# Altium schematic symbol library temporary.SchLib: 42 symbols
Pins are listed as number, name and electrical type; pins without a type are passive.

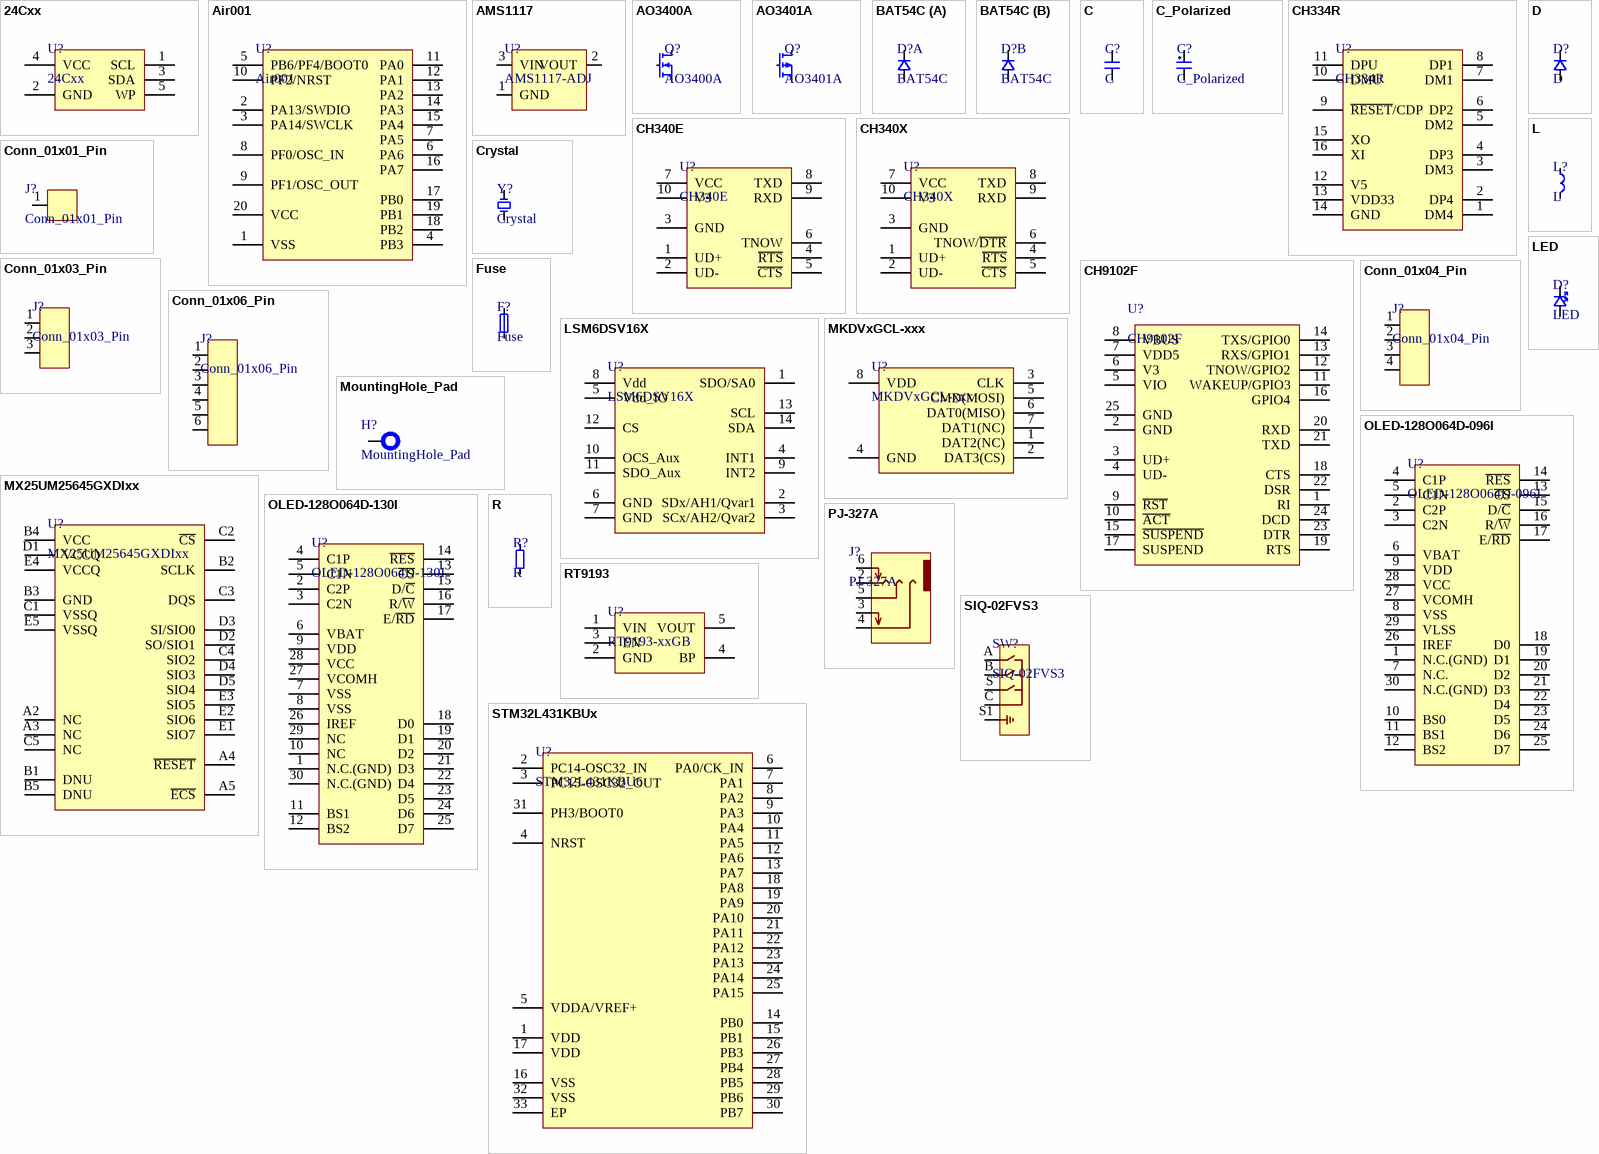
[diagram p0: symbols 24Cxx to STM32L431KBUx]

## 24Cxx
designator U?
I2C Serial EEPROM
footprint SOT-23-5
pins: 1 SCL, 2 GND, 3 SDA, 4 VCC, 5 WP

## Air001
designator U?
AirM2M Arm Cortex-M0+ MCU, 32KB Flash, 4KB RAM, 48 MHz, 1.7-5.5V, 18 GPIO, TSSOP20
footprint TSSOP-20_4.4x6.5mm_P0.65mm
pins: 1 VSS, 2 PA13/SWDIO, 3 PA14/SWCLK, 4 PB3, 5 PB6/PF4/BOOT0, 6 PA6, 7 PA5, 8 PF0/OSC_IN, 9 PF1/OSC_OUT, 10 PF2/NRST, 11 PA0, 12 PA1, 13 PA2, 14 PA3, 15 PA4, 16 PA7, 17 PB0, 18 PB2, 19 PB1, 20 VCC

## AMS1117
designator U?, comment AMS1117-ADJ
Low Dropout regulator
footprint SOT-223-3_TabPin2
pins: 1 GND, 2 VOUT, 3 VIN

## AO3400A
designator Q?
30V Vds, 5.7A Id, N-Channel MOSFET, SOT-23
footprint SOT-23-3
pins: 1 G, 2 S, 3 D

## AO3401A
designator Q?
Package_TO_SOT_SMD:SOT-23
footprint SOT-23-3
pins: 1 G, 2 S, 3 D

## BAT54C
designator D?
dual schottky barrier diode, common cathode
footprint SOT-23-3
part A pins: 1, 3
part B pins: 2

## C
designator C?
Capacitor
footprint C_0402_1005Metric
footprint C_0603_1608Metric
footprint C_0805_2012Metric
footprint C_1206_3216Metric
pins: 1, 2

## C_Polarized
designator C?
Polarized capacitor
footprint CP_EIA-3216-18_Kemet-A
pins: 1, 2

## CH334R
designator U?
USB HUB controller
footprint QSOP-16_3.9x4.9mm_P0.635mm
pins: 1 DM4, 2 DP4, 3 DM3, 4 DP3, 5 DM2, 6 DP2, 7 DM1, 8 DP1, 9 ~{RESET}/CDP, 10 DMU, 11 DPU, 12 V5, 13 VDD33, 14 GND, 15 XO, 16 XI

## CH340E
designator U?
USB serial converter, UART, MSOP-10
footprint MSOP-10_3x3mm_P0.5mm
pins: 1 UD+, 2 UD-, 3 GND, 4 ~{RTS}, 5 ~{CTS}, 6 TNOW, 7 VCC, 8 TXD, 9 RXD, 10 V3

## CH340X
designator U?
USB serial converter, 5V-tolerant IO, UART, MSOP-10
footprint MSOP-10_3x3mm_P0.5mm
pins: 1 UD+, 2 UD-, 3 GND, 4 ~{RTS}, 5 ~{CTS}, 6 TNOW/~{DTR}, 7 VCC, 8 TXD, 9 RXD, 10 V3

## CH9102F
designator U?
WCH-IC, Single-Chip USB-to-UART Bridge, USB 2.0 Full-Speed, 4Mbps UART, QFN-24
footprint QFN-24-1EP_4x4mm_P0.5mm_EP2.7x2.7mm
pins: 1 RI, 2 GND, 3 UD+, 4 UD-, 5 VIO, 6 V3, 7 VDD5, 8 VBUS, 9 ~{RST}, 10 ~{ACT}, 11 WAKEUP/GPIO3, 12 TNOW/GPIO2, 13 RXS/GPIO1, 14 TXS/GPIO0, 15 ~{SUSPEND}, 16 GPIO4, 17 SUSPEND, 18 CTS, 19 RTS, 20 RXD, 21 TXD, 22 DSR, 23 DTR, 24 DCD, 25 GND

## Conn_01x01_Pin
designator J?
Generic connector, single row, 01x01
footprint TestPoint_Plated_Hole_D2.0mm
footprint TestPoint_Plated_Hole_D3.0mm
footprint TestPoint_Plated_Hole_D4.0mm
footprint TestPoint_Plated_Hole_D5.0mm
footprint PinHeader_1x01_P2.54mm_Horizontal
footprint PinHeader_1x01_P2.54mm_Vertical
footprint TestPoint_Plated_Hole_D1.0mm
pins: 1

## Conn_01x03_Pin
designator J?
Generic connector, single row, 01x03
footprint PinHeader_1x03_P2.54mm_Horizontal
footprint PinHeader_1x03_P2.54mm_Vertical
pins: 1, 2, 3

## Conn_01x04_Pin
designator J?
Generic connector, single row, 01x04
footprint PinHeader_1x04_P2.54mm_Horizontal
footprint PinHeader_1x04_P2.54mm_Vertical
pins: 1, 2, 3, 4

## Conn_01x06_Pin
designator J?
Generic connector, single row, 01x06
footprint PinHeader_1x06_P2.54mm_Horizontal
footprint PinHeader_1x06_P2.54mm_Vertical
pins: 1, 2, 3, 4, 5, 6

## Crystal
designator Y?
footprint Crystal_HC49-4H_Vertical
footprint Crystal_SMD_3225-4Pin_3.2x2.5mm; pin to pad 2>3
footprint Crystal_SMD_HC49-SD
footprint Crystal_SMD_3215-2Pin_3.2x1.5mm
pins: 1, 2

## D
designator D?
Diode
footprint D_SOD-323
pins: 1 K, 2 A

## Fuse
designator F?
footprint Fuse_0402_1005Metric
footprint Fuse_0805_2012Metric
footprint Fuse_1206_3216Metric
footprint Fuse_0603_1608Metric
pins: 1, 2

## L
designator L?
Inductor
footprint L_0402_1005Metric
footprint L_0603_1608Metric
footprint L_0805_2012Metric
footprint L_1206_3216Metric
pins: 1, 2

## LED
designator D?
Light emitting diode
footprint LED_0603_1608Metric
pins: 1 K, 2 A

## LSM6DSV16X
designator U?
I2C/SPI, iNEMO inertial module: always-on 3D accelerometer and 3D gyroscope, 1.71V to 3.6V VCC
footprint LGA-14_3x2.5mm_P0.5mm_LayoutBorder3x4y
pins: 1 SDO/SA0, 2 SDx/AH1/Qvar1, 3 SCx/AH2/Qvar2, 4 INT1, 5 Vdd_IO, 6 GND, 7 GND, 8 Vdd, 9 INT2, 10 OCS_Aux, 11 SDO_Aux, 12 CS, 13 SCL, 14 SDA

## MKDVxGCL-xxx
designator U?
SD NAND Flash
footprint LGA-8_8x6mm_P1.27mm
pins: 1 DAT2(NC), 2 DAT3(CS), 3 CLK, 4 GND, 5 CMD(MOSI), 6 DAT0(MISO), 7 DAT1(NC), 8 VDD

## MountingHole_Pad
designator H?
Mounting Hole with connection
footprint MountingHole_2.2mm_M2_Pad_Via
footprint MountingHole_2.7mm_M2.5_Pad_Via
footprint MountingHole_3.2mm_M3_Pad_Via
pins: 1

## MX25UM25645GXDIxx
designator U?
1.8V Serial NOR Flash
footprint BGA-24_6x8mm_P1.0mm
pins: A2 NC, A3 NC, A4 ~{RESET}, A5 ~{ECS}, B1 DNU, B2 SCLK, B3 GND, B4 VCC, B5 DNU, C1 VSSQ, C2 ~{CS}, C3 DQS, C4 SIO2, C5 NC, D1 VCCQ, D2 SO/SIO1, D3 SI/SIO0, D4 SIO3, D5 SIO4, E1 SIO7, E2 SIO6, E3 SIO5, E4 VCCQ, E5 VSSQ

## OLED-128O064D-096I
designator U?
0.96' OLED display 128x64
footprint OLED-128O064D
pins: 1 N.C.(GND), 2 C2P, 3 C2N, 4 C1P, 5 C1N, 6 VBAT, 7 N.C., 8 VSS, 9 VDD, 10 BS0, 11 BS1, 12 BS2, 13 ~{CS}, 14 ~{RES}, 15 D/~{C}, 16 R/~{W}, 17 E/~{RD}, 18 D0, 19 D1, 20 D2, 21 D3, 22 D4, 23 D5, 24 D6, 25 D7, 26 IREF, 27 VCOMH, 28 VCC, 29 VLSS, 30 N.C.(GND)

## OLED-128O064D-130I
designator U?
1.30' OLED display 128x64
footprint OLED-128O064D
pins: 1 N.C.(GND), 2 C2P, 3 C2N, 4 C1P, 5 C1N, 6 VBAT, 7 VSS, 8 VSS, 9 VDD, 10 NC, 11 BS1, 12 BS2, 13 ~{CS}, 14 ~{RES}, 15 D/~{C}, 16 R/~{W}, 17 E/~{RD}, 18 D0, 19 D1, 20 D2, 21 D3, 22 D4, 23 D5, 24 D6, 25 D7, 26 IREF, 27 VCOMH, 28 VCC, 29 NC, 30 N.C.(GND)

## PJ-327A
designator J?
footprint Jack_3.5mm_PJ327A_Horizontal
pins: 2, 3, 4, 5, 6

## R
designator R?
Resistor
footprint R_0402_1005Metric
footprint R_0603_1608Metric
footprint R_0805_2012Metric
footprint R_1206_3216Metric
pins: 1, 2

## RT9193
designator U?, comment RT9193-xxGB
Positive 300mA Low Dropout Regulator
footprint SOT-23-5
pins: 1 VIN, 2 GND, 3 EN, 4 BP, 5 VOUT

## SIQ-02FVS3
designator SW?
footprint SIQ-02FVS3
pins: A, B, C, S, S1 SHIELD

## STM32L431KBUx
designator U?, comment STM32L431KBU6
STMicroelectronics Arm Cortex-M4 MCU, 128KB Flash, 64KB RAM, 80 MHz, 1.71-3.6V, 26 GPIO, UFQFPN32
footprint QFN-32-1EP_5x5mm_P0.5mm_EP3.45x3.45mm
pins: 1 VDD, 2 PC14-OSC32_IN, 3 PC15-OSC32_OUT, 4 NRST, 5 VDDA/VREF+, 6 PA0/CK_IN, 7 PA1, 8 PA2, 9 PA3, 10 PA4, 11 PA5, 12 PA6, 13 PA7, 14 PB0, 15 PB1, 16 VSS, 17 VDD, 18 PA8, 19 PA9, 20 PA10, 21 PA11, 22 PA12, 23 PA13, 24 PA14, 25 PA15, 26 PB3, 27 PB4, 28 PB5, 29 PB6, 30 PB7, 31 PH3/BOOT0, 32 VSS, 33 EP

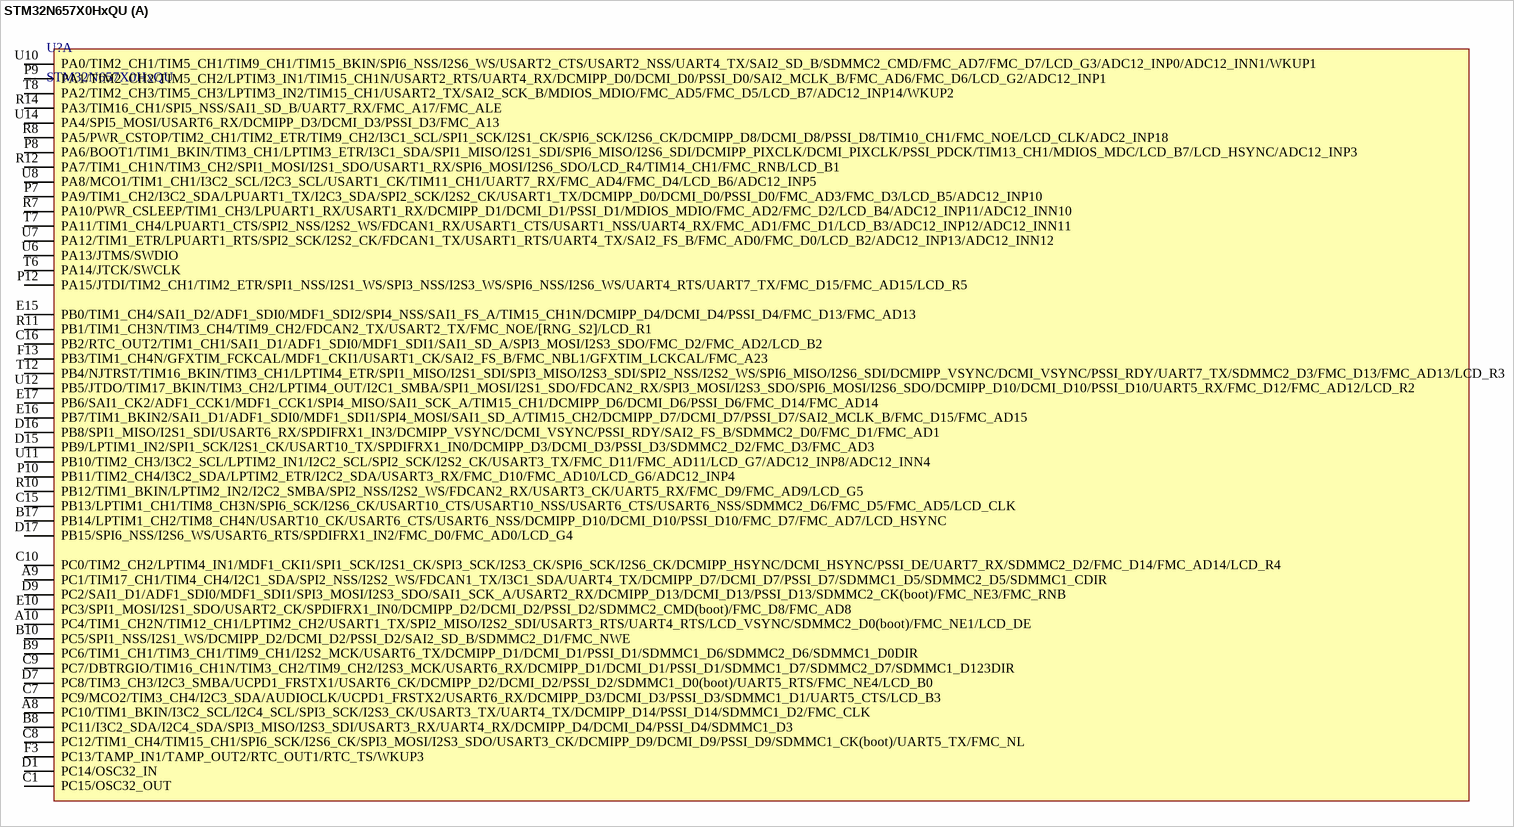
[diagram p1: symbol STM32N657X0HxQU]

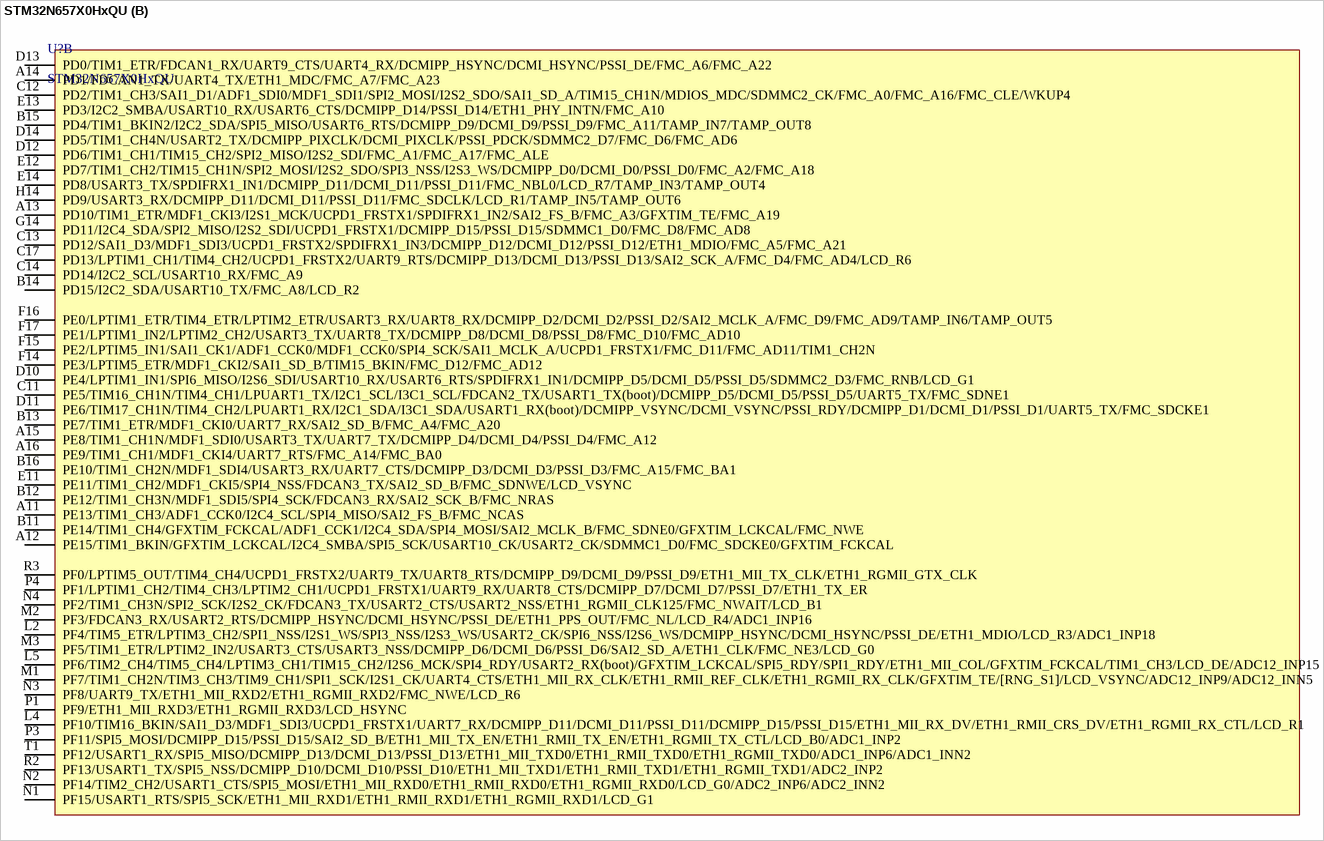
[diagram p2: symbol STM32N657X0HxQU]

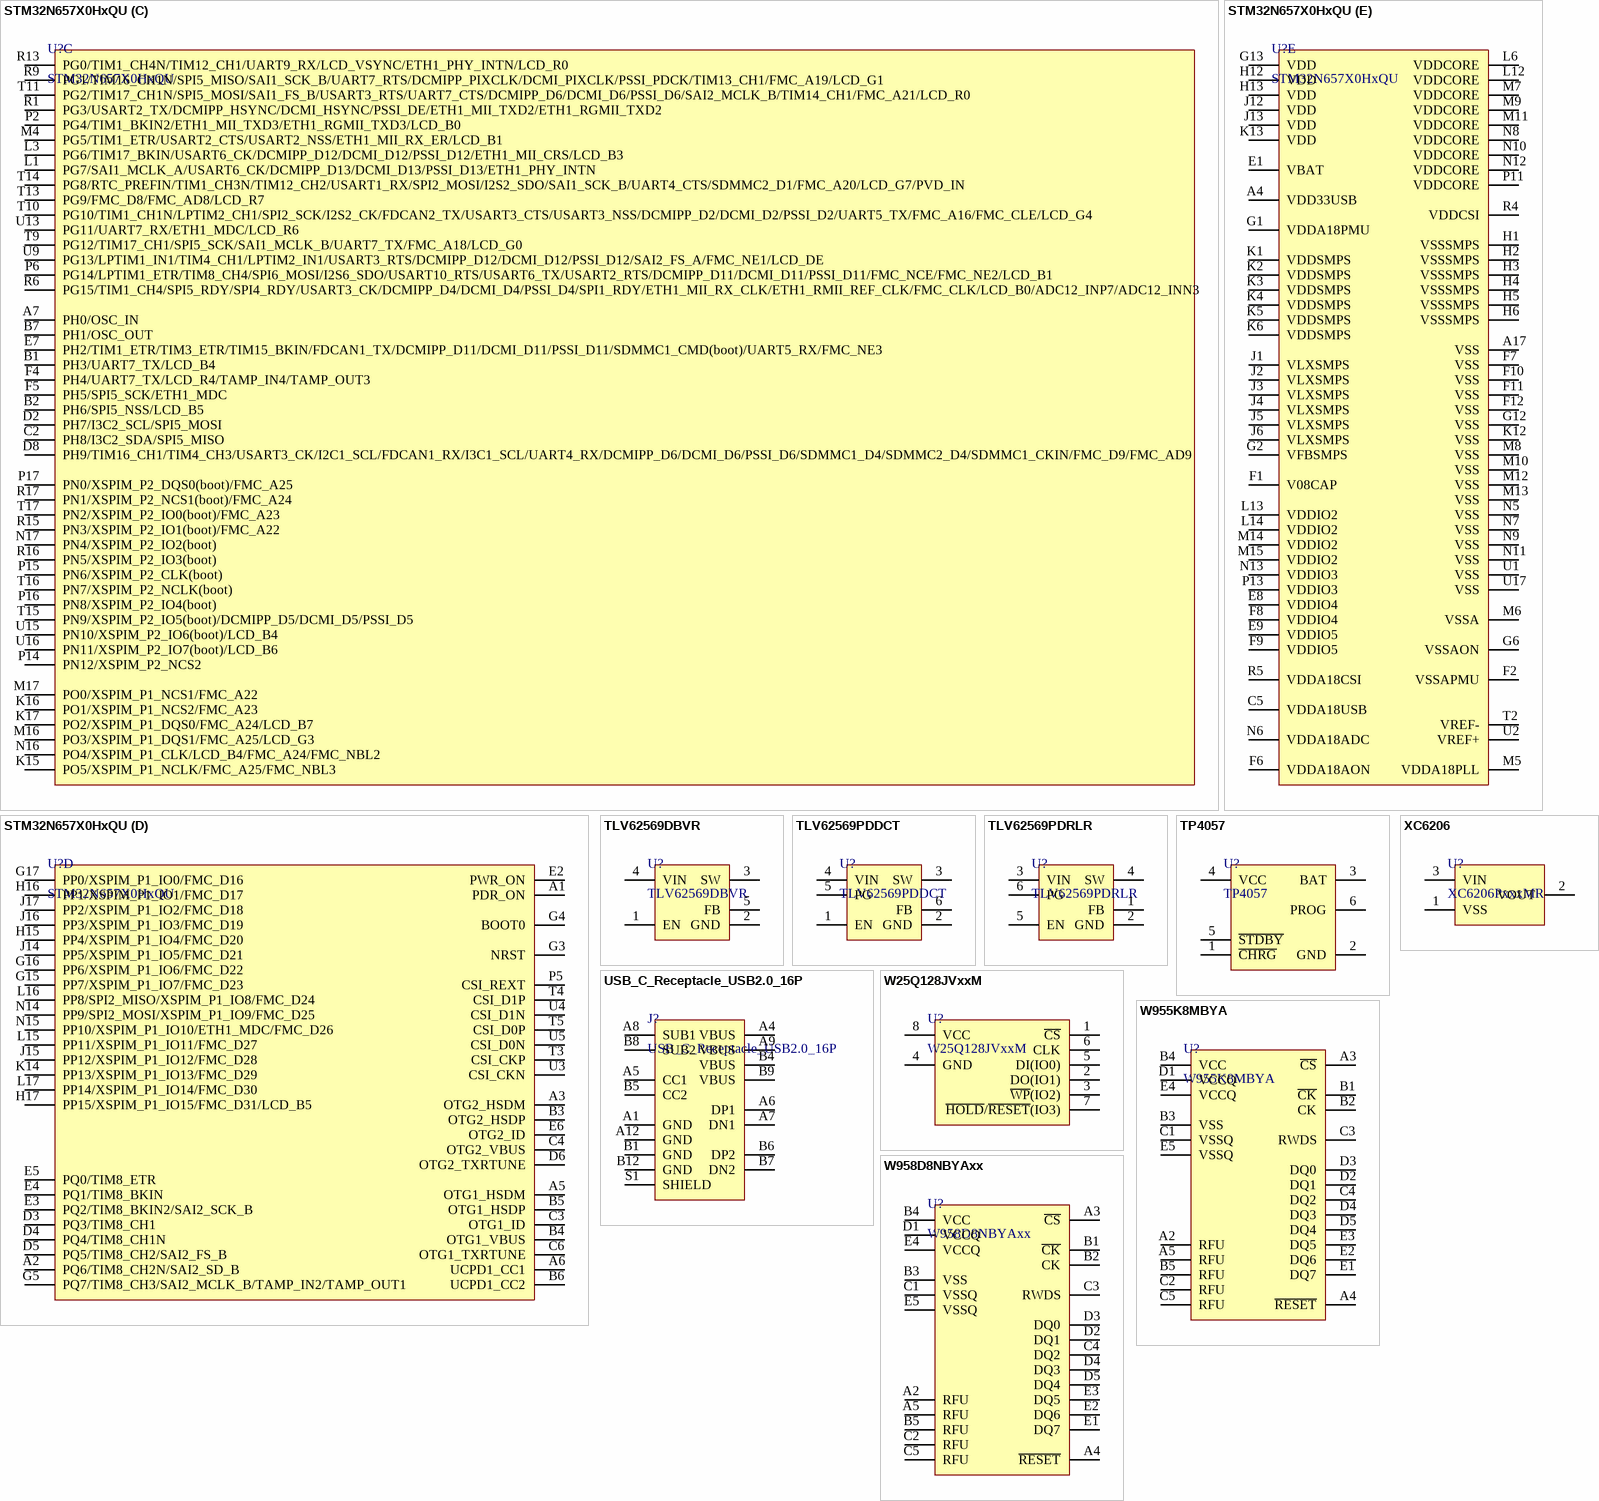
[diagram p3: symbols STM32N657X0HxQU to XC6206]

## STM32N657X0HxQU
designator U?
STMicroelectronics Arm Cortex-M55 MCU, 4.2MB RAM, 800 MHz, 1.62-3.6V, 165 GPIO, VFBGA264
footprint VFBGA-264_14x14mm_P0.8mm_Ball0.43mm_Pad0.36mm
part A pins: A8 PC10/TIM1_BKIN/I3C2_SCL/I2C4_SCL/SPI3_SCK/I2S3_CK/USART3_TX/UART4_TX/DCMIPP_D14/PSSI_D14/SDMMC1_D2/FMC_CLK, A9 PC1/TIM17_CH1/TIM4_CH4/I2C1_SDA/SPI2_NSS/I2S2_WS/FDCAN1_TX/I3C1_SDA/UART4_TX/DCMIPP_D7/DCMI_D7/PSSI_D7/SDMMC1_D5/SDMMC2_D5/SDMMC1_CDIR, A10 PC4/TIM1_CH2N/TIM12_CH1/LPTIM2_CH2/USART1_TX/SPI2_MISO/I2S2_SDI/USART3_RTS/UART4_RTS/LCD_VSYNC/SDMMC2_D0(boot)/FMC_NE1/LCD_DE, B8 PC11/I3C2_SDA/I2C4_SDA/SPI3_MISO/I2S3_SDI/USART3_RX/UART4_RX/DCMIPP_D4/DCMI_D4/PSSI_D4/SDMMC1_D3, B9 PC6/TIM1_CH1/TIM3_CH1/TIM9_CH1/I2S2_MCK/USART6_TX/DCMIPP_D1/DCMI_D1/PSSI_D1/SDMMC1_D6/SDMMC2_D6/SDMMC1_D0DIR, B10 PC5/SPI1_NSS/I2S1_WS/DCMIPP_D2/DCMI_D2/PSSI_D2/SAI2_SD_B/SDMMC2_D1/FMC_NWE, B17 PB14/LPTIM1_CH2/TIM8_CH4N/USART10_CK/USART6_CTS/USART6_NSS/DCMIPP_D10/DCMI_D10/PSSI_D10/FMC_D7/FMC_AD7/LCD_HSYNC, C1 PC15/OSC32_OUT, C7 PC9/MCO2/TIM3_CH4/I2C3_SDA/AUDIOCLK/UCPD1_FRSTX2/USART6_RX/DCMIPP_D3/DCMI_D3/PSSI_D3/SDMMC1_D1/UART5_CTS/LCD_B3, C8 PC12/TIM1_CH4/TIM15_CH1/SPI6_SCK/I2S6_CK/SPI3_MOSI/I2S3_SDO/USART3_CK/DCMIPP_D9/DCMI_D9/PSSI_D9/SDMMC1_CK(boot)/UART5_TX/FMC_NL, C9 PC7/DBTRGIO/TIM16_CH1N/TIM3_CH2/TIM9_CH2/I2S3_MCK/USART6_RX/DCMIPP_D1/DCMI_D1/PSSI_D1/SDMMC1_D7/SDMMC2_D7/SDMMC1_D123DIR, C10 PC0/TIM2_CH2/LPTIM4_IN1/MDF1_CKI1/SPI1_SCK/I2S1_CK/SPI3_SCK/I2S3_CK/SPI6_SCK/I2S6_CK/DCMIPP_HSYNC/DCMI_HSYNC/PSSI_DE/UART7_RX/SDMMC2_D2/FMC_D14/FMC_AD14/LCD_R4, C15 PB13/LPTIM1_CH1/TIM8_CH3N/SPI6_SCK/I2S6_CK/USART10_CTS/USART10_NSS/USART6_CTS/USART6_NSS/SDMMC2_D6/FMC_D5/FMC_AD5/LCD_CLK, C16 PB2/RTC_OUT2/TIM1_CH1/SAI1_D1/ADF1_SDI0/MDF1_SDI1/SAI1_SD_A/SPI3_MOSI/I2S3_SDO/FMC_D2/FMC_AD2/LCD_B2, D1 PC14/OSC32_IN, D7 PC8/TIM3_CH3/I2C3_SMBA/UCPD1_FRSTX1/USART6_CK/DCMIPP_D2/DCMI_D2/PSSI_D2/SDMMC1_D0(boot)/UART5_RTS/FMC_NE4/LCD_B0, D9 PC2/SAI1_D1/ADF1_SDI0/MDF1_SDI1/SPI3_MOSI/I2S3_SDO/SAI1_SCK_A/USART2_RX/DCMIPP_D13/DCMI_D13/PSSI_D13/SDMMC2_CK(boot)/FMC_NE3/FMC_RNB, D15 PB9/LPTIM1_IN2/SPI1_SCK/I2S1_CK/USART10_TX/SPDIFRX1_IN0/DCMIPP_D3/DCMI_D3/PSSI_D3/SDMMC2_D2/FMC_D3/FMC_AD3, D16 PB8/SPI1_MISO/I2S1_SDI/USART6_RX/SPDIFRX1_IN3/DCMIPP_VSYNC/DCMI_VSYNC/PSSI_RDY/SAI2_FS_B/SDMMC2_D0/FMC_D1/FMC_AD1, D17 PB15/SPI6_NSS/I2S6_WS/USART6_RTS/SPDIFRX1_IN2/FMC_D0/FMC_AD0/LCD_G4, E10 PC3/SPI1_MOSI/I2S1_SDO/USART2_CK/SPDIFRX1_IN0/DCMIPP_D2/DCMI_D2/PSSI_D2/SDMMC2_CMD(boot)/FMC_D8/FMC_AD8, E15 PB0/TIM1_CH4/SAI1_D2/ADF1_SDI0/MDF1_SDI2/SPI4_NSS/SAI1_FS_A/TIM15_CH1N/DCMIPP_D4/DCMI_D4/PSSI_D4/FMC_D13/FMC_AD13, E16 PB7/TIM1_BKIN2/SAI1_D1/ADF1_SDI0/MDF1_SDI1/SPI4_MOSI/SAI1_SD_A/TIM15_CH2/DCMIPP_D7/DCMI_D7/PSSI_D7/SAI2_MCLK_B/FMC_D15/FMC_AD15, E17 PB6/SAI1_CK2/ADF1_CCK1/MDF1_CCK1/SPI4_MISO/SAI1_SCK_A/TIM15_CH1/DCMIPP_D6/DCMI_D6/PSSI_D6/FMC_D14/FMC_AD14, F3 PC13/TAMP_IN1/TAMP_OUT2/RTC_OUT1/RTC_TS/WKUP3, F13 PB3/TIM1_CH4N/GFXTIM_FCKCAL/MDF1_CKI1/USART1_CK/SAI2_FS_B/FMC_NBL1/GFXTIM_LCKCAL/FMC_A23, P7 PA9/TIM1_CH2/I3C2_SDA/LPUART1_TX/I2C3_SDA/SPI2_SCK/I2S2_CK/USART1_TX/DCMIPP_D0/DCMI_D0/PSSI_D0/FMC_AD3/FMC_D3/LCD_B5/ADC12_INP10, P8 PA6/BOOT1/TIM1_BKIN/TIM3_CH1/LPTIM3_ETR/I3C1_SDA/SPI1_MISO/I2S1_SDI/SPI6_MISO/I2S6_SDI/DCMIPP_PIXCLK/DCMI_PIXCLK/PSSI_PDCK/TIM13_CH1/MDIOS_MDC/LCD_B7/LCD_HSYNC/ADC12_INP3, P9 PA1/TIM2_CH2/TIM5_CH2/LPTIM3_IN1/TIM15_CH1N/USART2_RTS/UART4_RX/DCMIPP_D0/DCMI_D0/PSSI_D0/SAI2_MCLK_B/FMC_AD6/FMC_D6/LCD_G2/ADC12_INP1, P10 PB11/TIM2_CH4/I3C2_SDA/LPTIM2_ETR/I2C2_SDA/USART3_RX/FMC_D10/FMC_AD10/LCD_G6/ADC12_INP4, P12 PA15/JTDI/TIM2_CH1/TIM2_ETR/SPI1_NSS/I2S1_WS/SPI3_NSS/I2S3_WS/SPI6_NSS/I2S6_WS/UART4_RTS/UART7_TX/FMC_D15/FMC_AD15/LCD_R5, R7 PA10/PWR_CSLEEP/TIM1_CH3/LPUART1_RX/USART1_RX/DCMIPP_D1/DCMI_D1/PSSI_D1/MDIOS_MDIO/FMC_AD2/FMC_D2/LCD_B4/ADC12_INP11/ADC12_INN10, R8 PA5/PWR_CSTOP/TIM2_CH1/TIM2_ETR/TIM9_CH2/I3C1_SCL/SPI1_SCK/I2S1_CK/SPI6_SCK/I2S6_CK/DCMIPP_D8/DCMI_D8/PSSI_D8/TIM10_CH1/FMC_NOE/LCD_CLK/ADC2_INP18, R10 PB12/TIM1_BKIN/LPTIM2_IN2/I2C2_SMBA/SPI2_NSS/I2S2_WS/FDCAN2_RX/USART3_CK/UART5_RX/FMC_D9/FMC_AD9/LCD_G5, R11 PB1/TIM1_CH3N/TIM3_CH4/TIM9_CH2/FDCAN2_TX/USART2_TX/FMC_NOE/[RNG_S2]/LCD_R1, R12 PA7/TIM1_CH1N/TIM3_CH2/SPI1_MOSI/I2S1_SDO/USART1_RX/SPI6_MOSI/I2S6_SDO/LCD_R4/TIM14_CH1/FMC_RNB/LCD_B1, R14 PA3/TIM16_CH1/SPI5_NSS/SAI1_SD_B/UART7_RX/FMC_A17/FMC_ALE, T6 PA14/JTCK/SWCLK, T7 PA11/TIM1_CH4/LPUART1_CTS/SPI2_NSS/I2S2_WS/FDCAN1_RX/USART1_CTS/USART1_NSS/UART4_RX/FMC_AD1/FMC_D1/LCD_B3/ADC12_INP12/ADC12_INN11, T8 PA2/TIM2_CH3/TIM5_CH3/LPTIM3_IN2/TIM15_CH1/USART2_TX/SAI2_SCK_B/MDIOS_MDIO/FMC_AD5/FMC_D5/LCD_B7/ADC12_INP14/WKUP2, T12 PB4/NJTRST/TIM16_BKIN/TIM3_CH1/LPTIM4_ETR/SPI1_MISO/I2S1_SDI/SPI3_MISO/I2S3_SDI/SPI2_NSS/I2S2_WS/SPI6_MISO/I2S6_SDI/DCMIPP_VSYNC/DCMI_VSYNC/PSSI_RDY/UART7_TX/SDMMC2_D3/FMC_D13/FMC_AD13/LCD_R3, U6 PA13/JTMS/SWDIO, U7 PA12/TIM1_ETR/LPUART1_RTS/SPI2_SCK/I2S2_CK/FDCAN1_TX/USART1_RTS/UART4_TX/SAI2_FS_B/FMC_AD0/FMC_D0/LCD_B2/ADC12_INP13/ADC12_INN12, U8 PA8/MCO1/TIM1_CH1/I3C2_SCL/I2C3_SCL/USART1_CK/TIM11_CH1/UART7_RX/FMC_AD4/FMC_D4/LCD_B6/ADC12_INP5, U10 PA0/TIM2_CH1/TIM5_CH1/TIM9_CH1/TIM15_BKIN/SPI6_NSS/I2S6_WS/USART2_CTS/USART2_NSS/UART4_TX/SAI2_SD_B/SDMMC2_CMD/FMC_AD7/FMC_D7/LCD_G3/ADC12_INP0/ADC12_INN1/WKUP1, U11 PB10/TIM2_CH3/I3C2_SCL/LPTIM2_IN1/I2C2_SCL/SPI2_SCK/I2S2_CK/USART3_TX/FMC_D11/FMC_AD11/LCD_G7/ADC12_INP8/ADC12_INN4, U12 PB5/JTDO/TIM17_BKIN/TIM3_CH2/LPTIM4_OUT/I2C1_SMBA/SPI1_MOSI/I2S1_SDO/FDCAN2_RX/SPI3_MOSI/I2S3_SDO/SPI6_MOSI/I2S6_SDO/DCMIPP_D10/DCMI_D10/PSSI_D10/UART5_RX/FMC_D12/FMC_AD12/LCD_R2, U14 PA4/SPI5_MOSI/USART6_RX/DCMIPP_D3/DCMI_D3/PSSI_D3/FMC_A13
part B pins: A11 PE13/TIM1_CH3/ADF1_CCK0/I2C4_SCL/SPI4_MISO/SAI2_FS_B/FMC_NCAS, A12 PE15/TIM1_BKIN/GFXTIM_LCKCAL/I2C4_SMBA/SPI5_SCK/USART10_CK/USART2_CK/SDMMC1_D0/FMC_SDCKE0/GFXTIM_FCKCAL, A13 PD10/TIM1_ETR/MDF1_CKI3/I2S1_MCK/UCPD1_FRSTX1/SPDIFRX1_IN2/SAI2_FS_B/FMC_A3/GFXTIM_TE/FMC_A19, A14 PD1/FDCAN1_TX/UART4_TX/ETH1_MDC/FMC_A7/FMC_A23, A15 PE8/TIM1_CH1N/MDF1_SDI0/USART3_TX/UART7_TX/DCMIPP_D4/DCMI_D4/PSSI_D4/FMC_A12, A16 PE9/TIM1_CH1/MDF1_CKI4/UART7_RTS/FMC_A14/FMC_BA0, B11 PE14/TIM1_CH4/GFXTIM_FCKCAL/ADF1_CCK1/I2C4_SDA/SPI4_MOSI/SAI2_MCLK_B/FMC_SDNE0/GFXTIM_LCKCAL/FMC_NWE, B12 PE12/TIM1_CH3N/MDF1_SDI5/SPI4_SCK/FDCAN3_RX/SAI2_SCK_B/FMC_NRAS, B13 PE7/TIM1_ETR/MDF1_CKI0/UART7_RX/SAI2_SD_B/FMC_A4/FMC_A20, B14 PD15/I2C2_SDA/USART10_TX/FMC_A8/LCD_R2, B15 PD4/TIM1_BKIN2/I2C2_SDA/SPI5_MISO/USART6_RTS/DCMIPP_D9/DCMI_D9/PSSI_D9/FMC_A11/TAMP_IN7/TAMP_OUT8, B16 PE10/TIM1_CH2N/MDF1_SDI4/USART3_RX/UART7_CTS/DCMIPP_D3/DCMI_D3/PSSI_D3/FMC_A15/FMC_BA1, C11 PE5/TIM16_CH1N/TIM4_CH1/LPUART1_TX/I2C1_SCL/I3C1_SCL/FDCAN2_TX/USART1_TX(boot)/DCMIPP_D5/DCMI_D5/PSSI_D5/UART5_TX/FMC_SDNE1, C12 PD2/TIM1_CH3/SAI1_D1/ADF1_SDI0/MDF1_SDI1/SPI2_MOSI/I2S2_SDO/SAI1_SD_A/TIM15_CH1N/MDIOS_MDC/SDMMC2_CK/FMC_A0/FMC_A16/FMC_CLE/WKUP4, C13 PD12/SAI1_D3/MDF1_SDI3/UCPD1_FRSTX2/SPDIFRX1_IN3/DCMIPP_D12/DCMI_D12/PSSI_D12/ETH1_MDIO/FMC_A5/FMC_A21, C14 PD14/I2C2_SCL/USART10_RX/FMC_A9, C17 PD13/LPTIM1_CH1/TIM4_CH2/UCPD1_FRSTX2/UART9_RTS/DCMIPP_D13/DCMI_D13/PSSI_D13/SAI2_SCK_A/FMC_D4/FMC_AD4/LCD_R6, D10 PE4/LPTIM1_IN1/SPI6_MISO/I2S6_SDI/USART10_RX/USART6_RTS/SPDIFRX1_IN1/DCMIPP_D5/DCMI_D5/PSSI_D5/SDMMC2_D3/FMC_RNB/LCD_G1, D11 PE6/TIM17_CH1N/TIM4_CH2/LPUART1_RX/I2C1_SDA/I3C1_SDA/USART1_RX(boot)/DCMIPP_VSYNC/DCMI_VSYNC/PSSI_RDY/DCMIPP_D1/DCMI_D1/PSSI_D1/UART5_TX/FMC_SDCKE1, D12 PD6/TIM1_CH1/TIM15_CH2/SPI2_MISO/I2S2_SDI/FMC_A1/FMC_A17/FMC_ALE, D13 PD0/TIM1_ETR/FDCAN1_RX/UART9_CTS/UART4_RX/DCMIPP_HSYNC/DCMI_HSYNC/PSSI_DE/FMC_A6/FMC_A22, D14 PD5/TIM1_CH4N/USART2_TX/DCMIPP_PIXCLK/DCMI_PIXCLK/PSSI_PDCK/SDMMC2_D7/FMC_D6/FMC_AD6, E11 PE11/TIM1_CH2/MDF1_CKI5/SPI4_NSS/FDCAN3_TX/SAI2_SD_B/FMC_SDNWE/LCD_VSYNC, E12 PD7/TIM1_CH2/TIM15_CH1N/SPI2_MOSI/I2S2_SDO/SPI3_NSS/I2S3_WS/DCMIPP_D0/DCMI_D0/PSSI_D0/FMC_A2/FMC_A18, E13 PD3/I2C2_SMBA/USART10_RX/USART6_CTS/DCMIPP_D14/PSSI_D14/ETH1_PHY_INTN/FMC_A10, E14 PD8/USART3_TX/SPDIFRX1_IN1/DCMIPP_D11/DCMI_D11/PSSI_D11/FMC_NBL0/LCD_R7/TAMP_IN3/TAMP_OUT4, F14 PE3/LPTIM5_ETR/MDF1_CKI2/SAI1_SD_B/TIM15_BKIN/FMC_D12/FMC_AD12, F15 PE2/LPTIM5_IN1/SAI1_CK1/ADF1_CCK0/MDF1_CCK0/SPI4_SCK/SAI1_MCLK_A/UCPD1_FRSTX1/FMC_D11/FMC_AD11/TIM1_CH2N, F16 PE0/LPTIM1_ETR/TIM4_ETR/LPTIM2_ETR/USART3_RX/UART8_RX/DCMIPP_D2/DCMI_D2/PSSI_D2/SAI2_MCLK_A/FMC_D9/FMC_AD9/TAMP_IN6/TAMP_OUT5, F17 PE1/LPTIM1_IN2/LPTIM2_CH2/USART3_TX/UART8_TX/DCMIPP_D8/DCMI_D8/PSSI_D8/FMC_D10/FMC_AD10, G14 PD11/I2C4_SDA/SPI2_MISO/I2S2_SDI/UCPD1_FRSTX1/DCMIPP_D15/PSSI_D15/SDMMC1_D0/FMC_D8/FMC_AD8, H14 PD9/USART3_RX/DCMIPP_D11/DCMI_D11/PSSI_D11/FMC_SDCLK/LCD_R1/TAMP_IN5/TAMP_OUT6, L2 PF4/TIM5_ETR/LPTIM3_CH2/SPI1_NSS/I2S1_WS/SPI3_NSS/I2S3_WS/USART2_CK/SPI6_NSS/I2S6_WS/DCMIPP_HSYNC/DCMI_HSYNC/PSSI_DE/ETH1_MDIO/LCD_R3/ADC1_INP18, L4 PF10/TIM16_BKIN/SAI1_D3/MDF1_SDI3/UCPD1_FRSTX1/UART7_RX/DCMIPP_D11/DCMI_D11/PSSI_D11/DCMIPP_D15/PSSI_D15/ETH1_MII_RX_DV/ETH1_RMII_CRS_DV/ETH1_RGMII_RX_CTL/LCD_R1, L5 PF6/TIM2_CH4/TIM5_CH4/LPTIM3_CH1/TIM15_CH2/I2S6_MCK/SPI4_RDY/USART2_RX(boot)/GFXTIM_LCKCAL/SPI5_RDY/SPI1_RDY/ETH1_MII_COL/GFXTIM_FCKCAL/TIM1_CH3/LCD_DE/ADC12_INP15, M1 PF7/TIM1_CH2N/TIM3_CH3/TIM9_CH1/SPI1_SCK/I2S1_CK/UART4_CTS/ETH1_MII_RX_CLK/ETH1_RMII_REF_CLK/ETH1_RGMII_RX_CLK/GFXTIM_TE/[RNG_S1]/LCD_VSYNC/ADC12_INP9/ADC12_INN5, M2 PF3/FDCAN3_RX/USART2_RTS/DCMIPP_HSYNC/DCMI_HSYNC/PSSI_DE/ETH1_PPS_OUT/FMC_NL/LCD_R4/ADC1_INP16, M3 PF5/TIM1_ETR/LPTIM2_IN2/USART3_CTS/USART3_NSS/DCMIPP_D6/DCMI_D6/PSSI_D6/SAI2_SD_A/ETH1_CLK/FMC_NE3/LCD_G0, N1 PF15/USART1_RTS/SPI5_SCK/ETH1_MII_RXD1/ETH1_RMII_RXD1/ETH1_RGMII_RXD1/LCD_G1, N2 PF14/TIM2_CH2/USART1_CTS/SPI5_MOSI/ETH1_MII_RXD0/ETH1_RMII_RXD0/ETH1_RGMII_RXD0/LCD_G0/ADC2_INP6/ADC2_INN2, N3 PF8/UART9_TX/ETH1_MII_RXD2/ETH1_RGMII_RXD2/FMC_NWE/LCD_R6, N4 PF2/TIM1_CH3N/SPI2_SCK/I2S2_CK/FDCAN3_TX/USART2_CTS/USART2_NSS/ETH1_RGMII_CLK125/FMC_NWAIT/LCD_B1, P1 PF9/ETH1_MII_RXD3/ETH1_RGMII_RXD3/LCD_HSYNC, P3 PF11/SPI5_MOSI/DCMIPP_D15/PSSI_D15/SAI2_SD_B/ETH1_MII_TX_EN/ETH1_RMII_TX_EN/ETH1_RGMII_TX_CTL/LCD_B0/ADC1_INP2, P4 PF1/LPTIM1_CH2/TIM4_CH3/LPTIM2_CH1/UCPD1_FRSTX1/UART9_RX/UART8_CTS/DCMIPP_D7/DCMI_D7/PSSI_D7/ETH1_TX_ER, R2 PF13/USART1_TX/SPI5_NSS/DCMIPP_D10/DCMI_D10/PSSI_D10/ETH1_MII_TXD1/ETH1_RMII_TXD1/ETH1_RGMII_TXD1/ADC2_INP2, R3 PF0/LPTIM5_OUT/TIM4_CH4/UCPD1_FRSTX2/UART9_TX/UART8_RTS/DCMIPP_D9/DCMI_D9/PSSI_D9/ETH1_MII_TX_CLK/ETH1_RGMII_GTX_CLK, T1 PF12/USART1_RX/SPI5_MISO/DCMIPP_D13/DCMI_D13/PSSI_D13/ETH1_MII_TXD0/ETH1_RMII_TXD0/ETH1_RGMII_TXD0/ADC1_INP6/ADC1_INN2
part C pins: A7 PH0/OSC_IN, B1 PH3/UART7_TX/LCD_B4, B2 PH6/SPI5_NSS/LCD_B5, B7 PH1/OSC_OUT, C2 PH8/I3C2_SDA/SPI5_MISO, D2 PH7/I3C2_SCL/SPI5_MOSI, D8 PH9/TIM16_CH1/TIM4_CH3/USART3_CK/I2C1_SCL/FDCAN1_RX/I3C1_SCL/UART4_RX/DCMIPP_D6/DCMI_D6/PSSI_D6/SDMMC1_D4/SDMMC2_D4/SDMMC1_CKIN/FMC_D9/FMC_AD9, E7 PH2/TIM1_ETR/TIM3_ETR/TIM15_BKIN/FDCAN1_TX/DCMIPP_D11/DCMI_D11/PSSI_D11/SDMMC1_CMD(boot)/UART5_RX/FMC_NE3, F4 PH4/UART7_TX/LCD_R4/TAMP_IN4/TAMP_OUT3, F5 PH5/SPI5_SCK/ETH1_MDC, K15 PO5/XSPIM_P1_NCLK/FMC_A25/FMC_NBL3, K16 PO1/XSPIM_P1_NCS2/FMC_A23, K17 PO2/XSPIM_P1_DQS0/FMC_A24/LCD_B7, L1 PG7/SAI1_MCLK_A/USART6_CK/DCMIPP_D13/DCMI_D13/PSSI_D13/ETH1_PHY_INTN, L3 PG6/TIM17_BKIN/USART6_CK/DCMIPP_D12/DCMI_D12/PSSI_D12/ETH1_MII_CRS/LCD_B3, M4 PG5/TIM1_ETR/USART2_CTS/USART2_NSS/ETH1_MII_RX_ER/LCD_B1, M16 PO3/XSPIM_P1_DQS1/FMC_A25/LCD_G3, M17 PO0/XSPIM_P1_NCS1/FMC_A22, N16 PO4/XSPIM_P1_CLK/LCD_B4/FMC_A24/FMC_NBL2, N17 PN4/XSPIM_P2_IO2(boot), P2 PG4/TIM1_BKIN2/ETH1_MII_TXD3/ETH1_RGMII_TXD3/LCD_B0, P6 PG14/LPTIM1_ETR/TIM8_CH4/SPI6_MOSI/I2S6_SDO/USART10_RTS/USART6_TX/USART2_RTS/DCMIPP_D11/DCMI_D11/PSSI_D11/FMC_NCE/FMC_NE2/LCD_B1, P14 PN12/XSPIM_P2_NCS2, P15 PN6/XSPIM_P2_CLK(boot), P16 PN8/XSPIM_P2_IO4(boot), P17 PN0/XSPIM_P2_DQS0(boot)/FMC_A25, R1 PG3/USART2_TX/DCMIPP_HSYNC/DCMI_HSYNC/PSSI_DE/ETH1_MII_TXD2/ETH1_RGMII_TXD2, R6 PG15/TIM1_CH4/SPI5_RDY/SPI4_RDY/USART3_CK/DCMIPP_D4/DCMI_D4/PSSI_D4/SPI1_RDY/ETH1_MII_RX_CLK/ETH1_RMII_REF_CLK/FMC_CLK/LCD_B0/ADC12_INP7/ADC12_INN3, R9 PG1/TIM16_CH1N/SPI5_MISO/SAI1_SCK_B/UART7_RTS/DCMIPP_PIXCLK/DCMI_PIXCLK/PSSI_PDCK/TIM13_CH1/FMC_A19/LCD_G1, R13 PG0/TIM1_CH4N/TIM12_CH1/UART9_RX/LCD_VSYNC/ETH1_PHY_INTN/LCD_R0, R15 PN3/XSPIM_P2_IO1(boot)/FMC_A22, R16 PN5/XSPIM_P2_IO3(boot), R17 PN1/XSPIM_P2_NCS1(boot)/FMC_A24, T9 PG12/TIM17_CH1/SPI5_SCK/SAI1_MCLK_B/UART7_TX/FMC_A18/LCD_G0, T10 PG10/TIM1_CH1N/LPTIM2_CH1/SPI2_SCK/I2S2_CK/FDCAN2_TX/USART3_CTS/USART3_NSS/DCMIPP_D2/DCMI_D2/PSSI_D2/UART5_TX/FMC_A16/FMC_CLE/LCD_G4, T11 PG2/TIM17_CH1N/SPI5_MOSI/SAI1_FS_B/USART3_RTS/UART7_CTS/DCMIPP_D6/DCMI_D6/PSSI_D6/SAI2_MCLK_B/TIM14_CH1/FMC_A21/LCD_R0, T13 PG9/FMC_D8/FMC_AD8/LCD_R7, T14 PG8/RTC_PREFIN/TIM1_CH3N/TIM12_CH2/USART1_RX/SPI2_MOSI/I2S2_SDO/SAI1_SCK_B/UART4_CTS/SDMMC2_D1/FMC_A20/LCD_G7/PVD_IN, T15 PN9/XSPIM_P2_IO5(boot)/DCMIPP_D5/DCMI_D5/PSSI_D5, T16 PN7/XSPIM_P2_NCLK(boot), T17 PN2/XSPIM_P2_IO0(boot)/FMC_A23, U9 PG13/LPTIM1_IN1/TIM4_CH1/LPTIM2_IN1/USART3_RTS/DCMIPP_D12/DCMI_D12/PSSI_D12/SAI2_FS_A/FMC_NE1/LCD_DE, U13 PG11/UART7_RX/ETH1_MDC/LCD_R6, U15 PN10/XSPIM_P2_IO6(boot)/LCD_B4, U16 PN11/XSPIM_P2_IO7(boot)/LCD_B6
part D pins: A1 PDR_ON, A2 PQ6/TIM8_CH2N/SAI2_SD_B, A3 OTG2_HSDM, A5 OTG1_HSDM, A6 UCPD1_CC1, B3 OTG2_HSDP, B4 OTG1_VBUS, B5 OTG1_HSDP, B6 UCPD1_CC2, C3 OTG1_ID, C4 OTG2_VBUS, C6 OTG1_TXRTUNE, D3 PQ3/TIM8_CH1, D4 PQ4/TIM8_CH1N, D5 PQ5/TIM8_CH2/SAI2_FS_B, D6 OTG2_TXRTUNE, E2 PWR_ON, E3 PQ2/TIM8_BKIN2/SAI2_SCK_B, E4 PQ1/TIM8_BKIN, E5 PQ0/TIM8_ETR, E6 OTG2_ID, G3 NRST, G4 BOOT0, G5 PQ7/TIM8_CH3/SAI2_MCLK_B/TAMP_IN2/TAMP_OUT1, G15 PP7/XSPIM_P1_IO7/FMC_D23, G16 PP6/XSPIM_P1_IO6/FMC_D22, G17 PP0/XSPIM_P1_IO0/FMC_D16, H15 PP4/XSPIM_P1_IO4/FMC_D20, H16 PP1/XSPIM_P1_IO1/FMC_D17, H17 PP15/XSPIM_P1_IO15/FMC_D31/LCD_B5, J14 PP5/XSPIM_P1_IO5/FMC_D21, J15 PP12/XSPIM_P1_IO12/FMC_D28, J16 PP3/XSPIM_P1_IO3/FMC_D19, J17 PP2/XSPIM_P1_IO2/FMC_D18, K14 PP13/XSPIM_P1_IO13/FMC_D29, L15 PP11/XSPIM_P1_IO11/FMC_D27, L16 PP8/SPI2_MISO/XSPIM_P1_IO8/FMC_D24, L17 PP14/XSPIM_P1_IO14/FMC_D30, N14 PP9/SPI2_MOSI/XSPIM_P1_IO9/FMC_D25, N15 PP10/XSPIM_P1_IO10/ETH1_MDC/FMC_D26, P5 CSI_REXT, T3 CSI_CKP, T4 CSI_D1P, T5 CSI_D0P, U3 CSI_CKN, U4 CSI_D1N, U5 CSI_D0N
part E pins: A4 VDD33USB, A17 VSS, C5 VDDA18USB, E1 VBAT, E8 VDDIO4, E9 VDDIO5, F1 V08CAP, F2 VSSAPMU, F6 VDDA18AON, F7 VSS, F8 VDDIO4, F9 VDDIO5, F10 VSS, F11 VSS, F12 VSS, G1 VDDA18PMU, G2 VFBSMPS, G6 VSSAON, G12 VSS, G13 VDD, H1 VSSSMPS, H2 VSSSMPS, H3 VSSSMPS, H4 VSSSMPS, H5 VSSSMPS, H6 VSSSMPS, H12 VDD, H13 VDD, J1 VLXSMPS, J2 VLXSMPS, J3 VLXSMPS, J4 VLXSMPS, J5 VLXSMPS, J6 VLXSMPS, J12 VDD, J13 VDD, K1 VDDSMPS, K2 VDDSMPS, K3 VDDSMPS, K4 VDDSMPS, K5 VDDSMPS, K6 VDDSMPS, K12 VSS, K13 VDD, L6 VDDCORE, L12 VDDCORE, L13 VDDIO2, L14 VDDIO2, M5 VDDA18PLL, M6 VSSA, M7 VDDCORE, M8 VSS, M9 VDDCORE, M10 VSS, M11 VDDCORE, M12 VSS, M13 VSS, M14 VDDIO2, M15 VDDIO2, N5 VSS, N6 VDDA18ADC, N7 VSS, N8 VDDCORE, N9 VSS, N10 VDDCORE, N11 VSS, N12 VDDCORE, N13 VDDIO3, P11 VDDCORE, P13 VDDIO3, R4 VDDCSI, R5 VDDA18CSI, T2 VREF-, U1 VSS, U2 VREF+, U17 VSS

## TLV62569DBVR
designator U?
High Efficiency Synchronous Buck Converter, Adjustable Output 0.6V-5.5V, 2A, SOT-23-5
footprint SOT-23-5
pins: 1 EN, 2 GND, 3 SW, 4 VIN, 5 FB

## TLV62569PDDCT
designator U?
High Efficiency Synchronous Buck Converter, Adjustable Output 0.6V-5.5V, 2A, SOT-23-6
footprint SOT-23-6
pins: 1 EN, 2 GND, 3 SW, 4 VIN, 5 PG, 6 FB

## TLV62569PDRLR
designator U?
High Efficiency Synchronous Buck Converter, Adjustable Output 0.6V-5.5V, 2A, SOT-563-6
footprint SOT-563
pins: 1 FB, 2 GND, 3 VIN, 4 SW, 5 EN, 6 PG

## TP4057
designator U?
500mA Single-Cell Li-Ion Charger, SOT-23-6
footprint SOT-23-6
pins: 1 ~{CHRG}, 2 GND, 3 BAT, 4 VCC, 5 ~{STDBY}, 6 PROG

## USB_C_Receptacle_USB2.0_16P
designator J?
USB 2.0-only 16P Type-C Receptacle connector
footprint USB_C_Receptacle_GCT_USB4105-xx-A_16P_TopMnt_Horizontal
pins: A1 GND, A4 VBUS, A5 CC1, A6 DP1, A7 DN1, A8 SUB1, A9 VBUS, A12 GND, B1 GND, B4 VBUS, B5 CC2, B6 DP2, B7 DN2, B8 SUB2, B9 VBUS, B12 GND, S1 SHIELD

## W25Q128JVxxM
designator U?
128Mb Serial Flash Memory, Standard/Dual/Quad SPI
footprint SOIC-8_5.275x5.275mm_P1.27mm
footprint WSON-8-1EP_6x5mm_P1.27mm_EP3.4x4.3mm
pins: 1 ~{CS}, 2 DO(IO1), 3 ~{WP}(IO2), 4 GND, 5 DI(IO0), 6 CLK, 7 ~{HOLD}/~{RESET}(IO3), 8 VCC

## W955K8MBYA
designator U?
1.8V 32Mb HyperRAM
footprint BGA-24_6x8mm_P1.0mm
pins: A2 RFU, A3 ~{CS}, A4 ~{RESET}, A5 RFU, B1 ~{CK}, B2 CK, B3 VSS, B4 VCC, B5 RFU, C1 VSSQ, C2 RFU, C3 RWDS, C4 DQ2, C5 RFU, D1 VCCQ, D2 DQ1, D3 DQ0, D4 DQ3, D5 DQ4, E1 DQ7, E2 DQ6, E3 DQ5, E4 VCCQ, E5 VSSQ

## W958D8NBYAxx
designator U?
1.8V 256Mb HyperRAM
footprint BGA-24_6x8mm_P1.0mm
pins: A2 RFU, A3 ~{CS}, A4 ~{RESET}, A5 RFU, B1 ~{CK}, B2 CK, B3 VSS, B4 VCC, B5 RFU, C1 VSSQ, C2 RFU, C3 RWDS, C4 DQ2, C5 RFU, D1 VCCQ, D2 DQ1, D3 DQ0, D4 DQ3, D5 DQ4, E1 DQ7, E2 DQ6, E3 DQ5, E4 VCCQ, E5 VSSQ

## XC6206
designator U?, comment XC6206PxxxMR
Positive 60-250mA Low Dropout Regulator
footprint SOT-23-3
pins: 1 VSS, 2 VOUT, 3 VIN